# EAGLE library part 555 (library MODULAR)
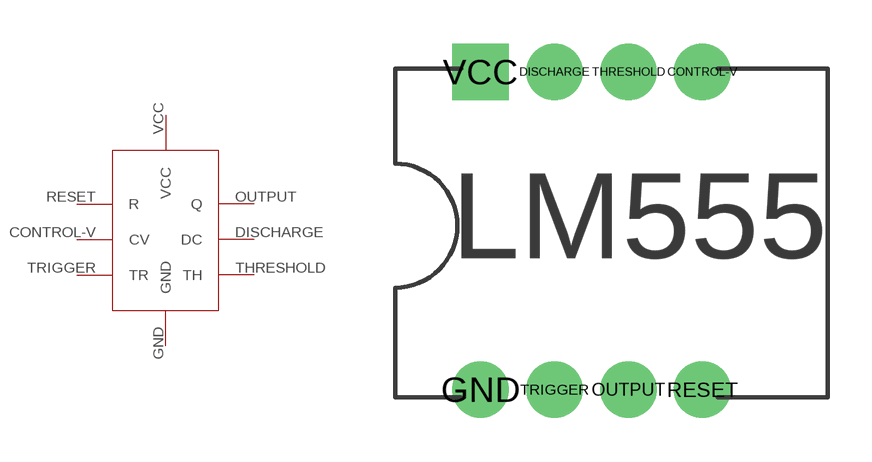
[diagram p2: symbol with the pads of 555; footprint 555]

Designator prefix -

## 555  [555]
CONTROL-V  CV
DISCHARGE  DC
GND  GND
OUTPUT  Q
RESET  R
THRESHOLD  TH
TRIGGER  TR
VCC  VCC

## Footprint 555 (pad centres in mm)
drill 1.3: CONTROL-V 7.62,10.92; DISCHARGE 2.54,10.92; GND 0,0; OUTPUT 5.08,0; RESET 7.62,0; THRESHOLD 5.08,10.92; TRIGGER 2.54,0
drill 1.3 square: VCC 0,10.92